# Altium footprint library Alt_git.PcbLib: 89 footprints (part 1 of 6)
Each footprint in its own frame and in the unit in brackets; x right, y up, seen from the top. Pads: shape width x height; smd on the part's side, far side on the other; paste and mask are expansions set on the pad; w line width, h text height; cw(c..) or ccw(c..) is an arc to the next point about the centre after c.
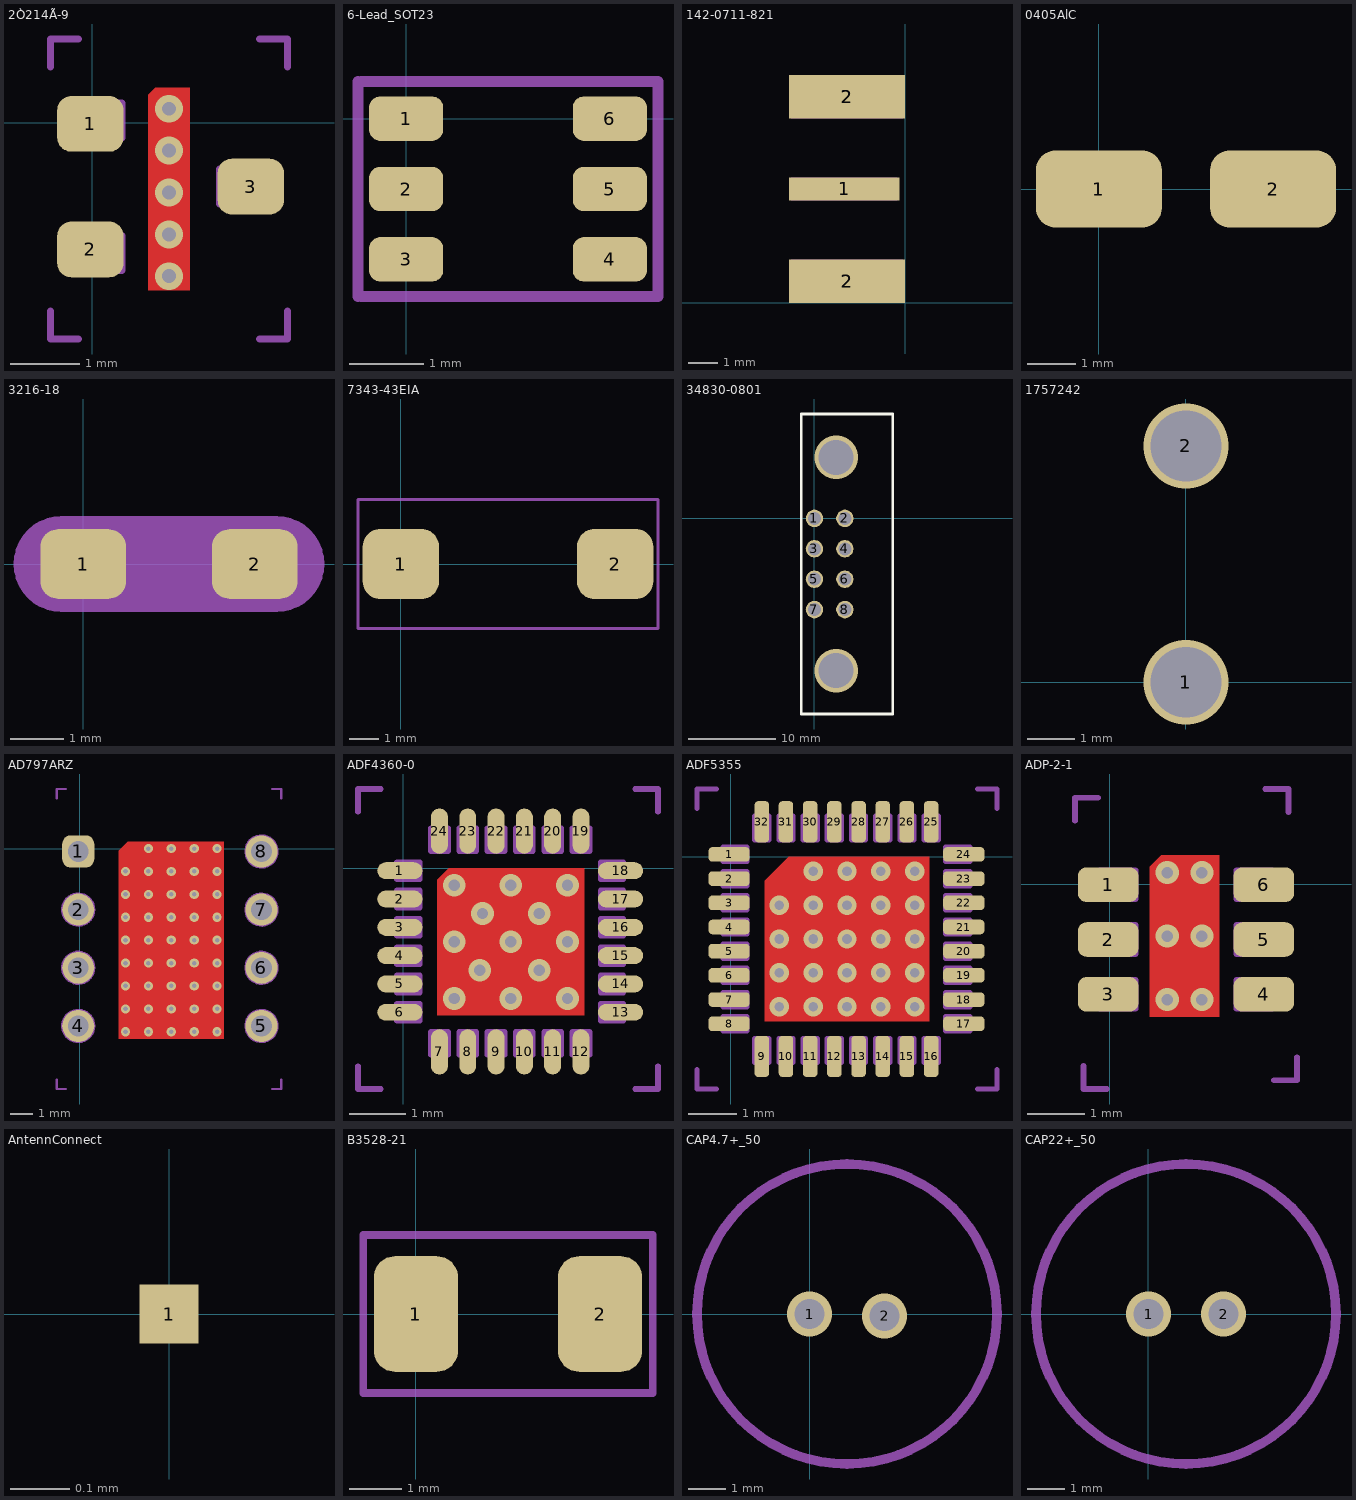
[diagram p0: the footprints below, top view; thin cyan lines are the x and y axes]

## 2Ò214Ã-9 [mm]
pads (3):
  rrect50% 0.95x0.8 smd: 1(-0.027,-0.016) 2(-0.027,-1.816) 3(2.273,-0.916)
via 1.1,0.2 diameter 0.4 hole 0.2
via 1.1,-0.4 diameter 0.4 hole 0.2
via 1.1,-1 diameter 0.4 hole 0.2
via 1.1,-1.6 diameter 0.4 hole 0.2
via 1.1,-2.2 diameter 0.4 hole 0.2
Top Layer:
  region: 1.4,-2.4 1.4,0.5 0.9,0.5 0.8,0.4 0.8,-2.4
Mechanical 4:
  lines w0.1: -0.277,-2.116 0.423,-2.116 0.423,-1.616 -0.277,-1.616 -0.277,-2.116 ; -0.277,-0.216 0.423,-0.216 0.423,0.284 -0.277,0.284 -0.277,-0.216 ; 1.823,-1.166 2.523,-1.166 2.523,-0.666 1.823,-0.666 1.823,-1.166
Mechanical 15:
  lines w0.1: -0.6,-2.7 -0.6,-3.1 -0.2,-3.1 ; -0.6,0.8 -0.6,1.2 -0.2,1.2 ; 2.4,-3.1 2.8,-3.1 2.8,-2.7 ; 2.4,1.2 2.8,1.2 2.8,0.8
3D body: height 1, standoff 0, extent 0.375,-2.425 1.875,0.575

## 6-Lead_SOT23 [mm]
pads (6):
  rrect50% 1x0.6 smd mask+0: 1(0,0) 2(0,-0.95) 3(0,-1.9) 4(2.75,-1.9) 5(2.75,-0.95) 6(2.75,0)
Mechanical 15:
  lines w0.15: -0.65,-2.4 -0.65,0.5 ; -0.6,-2.4 3.4,-2.4 3.4,0.5 -0.6,0.5

## 142-0711-821 [mm]
pads (5):
  rect 3.81x0.8 smd: 1(-2.1,3.925)
  rect 4x1.5 smd mask+0.1: 2(-2,0.75) 2(-2,7.1)
  rect 4x1.5 smd: 2(-2,0.75) 2(-2,7.1)
Bottom Paste:
  region: 0,1.5 0,0 -4,0 -4,1.5
  region: 0,7.85 0,6.35 -4,6.35 -4,7.85
Connect:
  lines w0.2: -3.9,0.1 -0.1,0.1 -0.1,1.4 -3.9,1.4 -3.9,0.1 ; -3.9,3.62 -3.9,4.22 -0.3,4.22 -0.3,3.62 -3.9,3.62 ; -3.9,6.45 -3.9,7.75 -0.15,7.75 -0.1,7.75 -0.1,6.45 -3.9,6.45
3D body: height 3.6, standoff -2.75, extent -13.31,0.75 0.1,7.1

## 0405AlC [mm]
pads (2):
  rrect50% 2.6x1.6 smd: 1(0,0) 2(3.6,0)
3D body: height 5.6, standoff 0, extent -0.1,-2 3.9,2

## 3216-18 [mm]
pads (2):
  rrect50% 1.6x1.3 smd mask+0: 1(0,0) 2(3.2,0)
Mechanical 15:
  region: -1.2,0 -1.2,0.052 -1.179,0.209 -1.099,0.403 -0.971,0.571 -0.803,0.699 -0.609,0.779 -0.452,0.8 -0.4,0.8 3.6,0.8 3.652,0.8 3.809,0.779 4.003,0.699 4.171,0.571 4.299,0.403 4.379,0.209 4.4,0.052 4.4,0 4.4,-0.052 4.379,-0.209 4.299,-0.403 4.171,-0.571 4.003,-0.699 3.809,-0.779 3.652,-0.8 3.6,-0.8 -0.4,-0.8 -0.452,-0.8 -0.609,-0.779 -0.803,-0.699 -0.971,-0.571 -1.099,-0.403 -1.179,-0.209 -1.2,-0.052
BrdComp:
  lines w0.2: -1.2,0 cw(c-0.4,0) -0.4,0.8 3.6,0.8 cw(c3.6,0) 4.4,0 cw(c3.6,0) 3.6,-0.8 -0.4,-0.8 cw(c-0.4,0) -1.2,0

## 7343-43EIA [mm]
pads (2):
  rrect50% 2.6x2.4 smd: 1(0,0) 2(7.3,0)
Mechanical 15:
  lines w0.1: -1.46,-2.19 -1.46,2.19 8.76,2.19 8.76,-2.19 -1.46,-2.19

## 34830-0801 [mm] "Molex MX150 PCB connector"
height 20
pads (8):
  round 2 hole 1.5: 1(0,0) 2(3.5,0) 3(0,-3.5) 4(3.5,-3.5) 5(0,-7) 6(3.5,-7) 7(0,-10.5) 8(3.5,-10.5)
via 2.5,-17.5 diameter 5 hole 4
via 2.5,7 diameter 5 hole 4
Top Overlay:
  lines w0.3: -1.5,-22.5 -1.5,12 9,12 9,-22.5 -1.5,-22.5
3D body: height 20.64, standoff -5.85, extent -0.6,-26.645 41.96,16.045

## 1757242 [mm]
pads (2):
  round 1 hole 0.6: 1(0,0) 2(0,5.02)
via 0,0 diameter 1.8 hole 1.5
via 0,5.02 diameter 1.8 hole 1.5
Top Paste:
  circle w0.15: c0.005,-0.001 r0.675
  circle w0.15: c-0.003,5.025 r0.675
Top Solder:
  circle w0.15: c0.001,-0.001 r0.675
  circle w0.15: c0,5.02 r0.675
3D body: height 13.64, standoff -3, extent -2,-3.66 28,8.5

## AD797ARZ [mm]
pads (8):
  rrect50% 1.4x1.4 hole 0.9: 1(-0.063,-0.127)
  round 1.4 hole 0.9: 2(-0.063,-2.667) 3(-0.063,-5.207) 4(-0.063,-7.747) 5(7.937,-7.747) 6(7.937,-5.207) 7(7.937,-2.667) 8(7.937,-0.127)
via 2,-2 diameter 0.4 hole 0.2
via 2,-1 diameter 0.4 hole 0.2
via 2,-3 diameter 0.4 hole 0.2
via 2,-5 diameter 0.4 hole 0.2
via 2,-4 diameter 0.4 hole 0.2
via 2,-6 diameter 0.4 hole 0.2
via 2,-8 diameter 0.4 hole 0.2
via 2,-7 diameter 0.4 hole 0.2
via 3,0 diameter 0.4 hole 0.2
via 3,-2 diameter 0.4 hole 0.2
via 3,-1 diameter 0.4 hole 0.2
via 3,-3 diameter 0.4 hole 0.2
via 3,-5 diameter 0.4 hole 0.2
via 3,-4 diameter 0.4 hole 0.2
via 3,-6 diameter 0.4 hole 0.2
via 3,-8 diameter 0.4 hole 0.2
via 3,-7 diameter 0.4 hole 0.2
via 4,0 diameter 0.4 hole 0.2
via 4,-2 diameter 0.4 hole 0.2
via 4,-1 diameter 0.4 hole 0.2
via 4,-3 diameter 0.4 hole 0.2
via 4,-5 diameter 0.4 hole 0.2
via 4,-4 diameter 0.4 hole 0.2
via 4,-6 diameter 0.4 hole 0.2
via 4,-8 diameter 0.4 hole 0.2
via 4,-7 diameter 0.4 hole 0.2
via 5,0 diameter 0.4 hole 0.2
via 5,-2 diameter 0.4 hole 0.2
via 5,-1 diameter 0.4 hole 0.2
via 5,-3 diameter 0.4 hole 0.2
via 5,-5 diameter 0.4 hole 0.2
via 5,-4 diameter 0.4 hole 0.2
via 5,-6 diameter 0.4 hole 0.2
via 5,-8 diameter 0.4 hole 0.2
via 5,-7 diameter 0.4 hole 0.2
via 6,-7 diameter 0.4 hole 0.2
via 6,-8 diameter 0.4 hole 0.2
via 6,-6 diameter 0.4 hole 0.2
via 6,-4 diameter 0.4 hole 0.2
via 6,-5 diameter 0.4 hole 0.2
via 6,-3 diameter 0.4 hole 0.2
via 6,-1 diameter 0.4 hole 0.2
via 6,-2 diameter 0.4 hole 0.2
via 6,0 diameter 0.4 hole 0.2
Top Layer:
  region: 6.3,-8.3 6.3,0.3 2.1,0.3 1.7,-0.1 1.7,-8.3
Mechanical 4:
  circle w0.1: c-0.063,-5.207 r0.7
  circle w0.1: c-0.063,-7.747 r0.7
  circle w0.1: c-0.063,-2.667 r0.7
  circle w0.1: c7.937,-7.747 r0.7
  circle w0.1: c7.937,-5.207 r0.7
  circle w0.1: c7.937,-0.127 r0.7
  circle w0.1: c7.937,-2.667 r0.7
Mechanical 15:
  lines w0.1: -1,-10.1 -1,-10.5 -0.6,-10.5 ; -1,2.2 -1,2.6 -0.6,2.6 ; 8.4,-10.5 8.8,-10.5 8.8,-10.1 ; 8.4,2.6 8.8,2.6 8.8,2.2
BrdComp:
  lines w0.05: 3.437,-3.937 4.437,-3.937 ; 3.937,-4.437 3.937,-3.437
3D body: height 6, standoff -0.65, extent -0.05,-9.08 7.95,1.08

## ADF4360-0 [mm]
pads (25):
  oval 0.8x0.3 smd: 1(-0.061,-0.044) 2(-0.061,-0.544) 3(-0.061,-1.044) 4(-0.061,-1.544) 5(-0.061,-2.044) 6(-0.061,-2.544) 13(3.839,-2.544) 14(3.839,-2.044) 15(3.839,-1.544) 16(3.839,-1.044) 17(3.839,-0.544) 18(3.839,-0.044)
  oval 0.3x0.8 smd: 7(0.639,-3.244) 8(1.139,-3.244) 9(1.639,-3.244) 10(2.139,-3.244) 11(2.639,-3.244) 12(3.139,-3.244) 19(3.139,0.656) 20(2.639,0.656) 21(2.139,0.656) 22(1.639,0.656) 23(1.139,0.656) 24(0.639,0.656)
  round 0 smd paste-25.4 mask-25.4: 25(1.889,-1.294)
via 2.4,-1.8 diameter 0.4 hole 0.2
via 1.35,-1.8 diameter 0.4 hole 0.2
via 1.4,-0.8 diameter 0.4 hole 0.2
via 2.4,-0.8 diameter 0.4 hole 0.2
via 2.9,-0.3 diameter 0.4 hole 0.2
via 2.9,-2.3 diameter 0.4 hole 0.2
via 2.9,-1.3 diameter 0.4 hole 0.2
via 1.9,-0.3 diameter 0.4 hole 0.2
via 1.9,-1.3 diameter 0.4 hole 0.2
via 1.9,-2.3 diameter 0.4 hole 0.2
via 0.9,-2.3 diameter 0.4 hole 0.2
via 0.9,-1.3 diameter 0.4 hole 0.2
via 0.9,-0.3 diameter 0.4 hole 0.2
Top Layer:
  region: 3.2,-2.6 3.2,0 0.8,0 0.6,-0.2 0.6,-2.6
Mechanical 4:
  lines w0.1: -0.111,-2.694 0.289,-2.694 0.289,-2.394 -0.111,-2.394 -0.111,-2.694 ; -0.111,-2.194 0.289,-2.194 0.289,-1.894 -0.111,-1.894 -0.111,-2.194 ; -0.111,-1.694 0.289,-1.694 0.289,-1.394 -0.111,-1.394 -0.111,-1.694 ; -0.111,-1.194 -0.111,-0.894 0.289,-0.894 0.289,-1.194 -0.111,-1.194 ; -0.111,-0.694 0.289,-0.694 0.289,-0.394 -0.111,-0.394 -0.111,-0.694 ; -0.111,-0.194 0.289,-0.194 0.289,0.106 -0.111,0.106 -0.111,-0.194 ; 0.489,-3.294 0.489,-2.894 0.789,-2.894 0.789,-3.294 0.489,-3.294 ; 0.489,0.306 0.489,0.706 0.789,0.706 0.789,0.306 0.489,0.306 ; 0.989,-3.294 0.989,-2.894 1.289,-2.894 1.289,-3.294 0.989,-3.294 ; 0.989,0.306 0.989,0.706 1.289,0.706 1.289,0.306 0.989,0.306 ; 1.489,-3.294 1.789,-3.294 1.789,-2.894 1.489,-2.894 1.489,-3.294 ; 1.489,0.306 1.789,0.306 1.789,0.706 1.489,0.706 1.489,0.306 ; 1.989,-3.294 1.989,-2.894 2.289,-2.894 2.289,-3.294 1.989,-3.294 ; 1.989,0.306 2.289,0.306 2.289,0.706 1.989,0.706 1.989,0.306 ; 2.489,-3.294 2.489,-2.894 2.789,-2.894 2.789,-3.294 2.489,-3.294 ; 2.489,0.306 2.489,0.706 2.789,0.706 2.789,0.306 2.489,0.306 ; 2.989,-3.294 2.989,-2.894 3.289,-2.894 3.289,-3.294 2.989,-3.294 ; 2.989,0.306 3.289,0.306 3.289,0.706 2.989,0.706 2.989,0.306 ; 3.489,-2.694 3.489,-2.394 3.889,-2.394 3.889,-2.694 3.489,-2.694 ; 3.489,-2.194 3.889,-2.194 3.889,-1.894 3.489,-1.894 3.489,-2.194 ; 3.489,-1.694 3.889,-1.694 3.889,-1.394 3.489,-1.394 3.489,-1.694 ; 3.489,-1.194 3.489,-0.894 3.889,-0.894 3.889,-1.194 3.489,-1.194 ; 3.489,-0.694 3.889,-0.694 3.889,-0.394 3.489,-0.394 3.489,-0.694 ; 3.489,-0.194 3.889,-0.194 3.889,0.106 3.489,0.106 3.489,-0.194
Mechanical 15:
  lines w0.1: -0.8,-3.5 -0.8,-3.9 -0.4,-3.9 ; -0.8,1 -0.8,1.4 -0.4,1.4 ; 4.1,-3.9 4.5,-3.9 4.5,-3.5 ; 4.1,1.4 4.5,1.4 4.5,1
3D body: height 1, standoff 0, extent -0.1,-3.3 3.9,0.7

## ADF5355 [mm]
pads (32):
  rrect50% 0.85x0.3 smd: 1(-0.036,0.048) 2(-0.036,-0.452) 3(-0.036,-0.952) 4(-0.036,-1.452) 5(-0.036,-1.952) 6(-0.036,-2.452) 7(-0.036,-2.952) 8(-0.036,-3.452) 17(4.814,-3.452) 18(4.814,-2.952) 19(4.814,-2.452) 20(4.814,-1.952) 21(4.814,-1.452) 22(4.814,-0.952) 23(4.814,-0.452) 24(4.814,0.048)
  rrect50% 0.3x0.85 smd: 9(0.639,-4.127) 10(1.139,-4.127) 11(1.639,-4.127) 12(2.139,-4.127) 13(2.639,-4.127) 14(3.139,-4.127) 15(3.639,-4.127) 16(4.139,-4.127) 25(4.139,0.723) 26(3.639,0.723) 27(3.139,0.723) 28(2.639,0.723) 29(2.139,0.723) 30(1.639,0.723) 31(1.139,0.723) 32(0.639,0.723)
via 1,-3.1 diameter 0.4 hole 0.2
via 1,-2.4 diameter 0.4 hole 0.2
via 1,-1.7 diameter 0.4 hole 0.2
via 1.7,-3.1 diameter 0.4 hole 0.2
via 1.7,-2.4 diameter 0.4 hole 0.2
via 1.7,-1.7 diameter 0.4 hole 0.2
via 2.4,-3.1 diameter 0.4 hole 0.2
via 2.4,-2.4 diameter 0.4 hole 0.2
via 2.4,-1.7 diameter 0.4 hole 0.2
via 3.1,-3.1 diameter 0.4 hole 0.2
via 3.1,-2.4 diameter 0.4 hole 0.2
via 3.1,-1.7 diameter 0.4 hole 0.2
via 3.8,-3.1 diameter 0.4 hole 0.2
via 3.8,-2.4 diameter 0.4 hole 0.2
via 3.8,-1.7 diameter 0.4 hole 0.2
via 1,-1 diameter 0.4 hole 0.2
via 1.7,-1 diameter 0.4 hole 0.2
via 2.4,-1 diameter 0.4 hole 0.2
via 3.1,-1 diameter 0.4 hole 0.2
via 3.8,-1 diameter 0.4 hole 0.2
via 1.7,-0.3 diameter 0.4 hole 0.2
via 2.4,-0.3 diameter 0.4 hole 0.2
via 3.1,-0.3 diameter 0.4 hole 0.2
via 3.8,-0.3 diameter 0.4 hole 0.2
Top Layer:
  region: 4.1,-3.4 4.1,0 1.2,0 0.7,-0.5 0.7,-3.4
Mechanical 4:
  lines w0.1: -0.161,-3.602 0.339,-3.602 0.339,-3.302 -0.161,-3.302 -0.161,-3.602 ; -0.161,-3.102 0.339,-3.102 0.339,-2.802 -0.161,-2.802 -0.161,-3.102 ; -0.161,-2.602 0.339,-2.602 0.339,-2.302 -0.161,-2.302 -0.161,-2.602 ; -0.161,-2.102 0.339,-2.102 0.339,-1.802 -0.161,-1.802 -0.161,-2.102 ; -0.161,-1.602 0.339,-1.602 0.339,-1.302 -0.161,-1.302 -0.161,-1.602 ; -0.161,-1.102 -0.161,-0.802 0.339,-0.802 0.339,-1.102 -0.161,-1.102 ; -0.161,-0.602 0.339,-0.602 0.339,-0.302 -0.161,-0.302 -0.161,-0.602 ; -0.161,-0.102 0.339,-0.102 0.339,0.198 -0.161,0.198 -0.161,-0.102 ; 0.489,-4.252 0.489,-3.752 0.789,-3.752 0.789,-4.252 0.489,-4.252 ; 0.489,0.348 0.489,0.848 0.789,0.848 0.789,0.348 0.489,0.348 ; 0.989,-4.252 0.989,-3.752 1.289,-3.752 1.289,-4.252 0.989,-4.252 ; 0.989,0.348 0.989,0.848 1.289,0.848 1.289,0.348 0.989,0.348 ; 1.489,-4.252 1.489,-3.752 1.789,-3.752 1.789,-4.252 1.489,-4.252 ; 1.489,0.348 1.489,0.848 1.789,0.848 1.789,0.348 1.489,0.348 ; 1.989,-4.252 2.289,-4.252 2.289,-3.752 1.989,-3.752 1.989,-4.252 ; 1.989,0.348 2.289,0.348 2.289,0.848 1.989,0.848 1.989,0.348 ; 2.489,-4.252 2.489,-3.752 2.789,-3.752 2.789,-4.252 2.489,-4.252 ; 2.489,0.348 2.489,0.848 2.789,0.848 2.789,0.348 2.489,0.348 ; 2.989,-4.252 2.989,-3.752 3.289,-3.752 3.289,-4.252 2.989,-4.252 ; 2.989,0.348 2.989,0.848 3.289,0.848 3.289,0.348 2.989,0.348 ; 3.489,-4.252 3.489,-3.752 3.789,-3.752 3.789,-4.252 3.489,-4.252 ; 3.489,0.348 3.489,0.848 3.789,0.848 3.789,0.348 3.489,0.348 ; 3.989,-4.252 3.989,-3.752 4.289,-3.752 4.289,-4.252 3.989,-4.252 ; 3.989,0.348 3.989,0.848 4.289,0.848 4.289,0.348 3.989,0.348 ; 4.439,-3.602 4.439,-3.302 4.939,-3.302 4.939,-3.602 4.439,-3.602 ; 4.439,-3.102 4.439,-2.802 4.939,-2.802 4.939,-3.102 4.439,-3.102 ; 4.439,-2.602 4.439,-2.302 4.939,-2.302 4.939,-2.602 4.439,-2.602 ; 4.439,-2.102 4.439,-1.802 4.939,-1.802 4.939,-2.102 4.439,-2.102 ; 4.439,-1.602 4.439,-1.302 4.939,-1.302 4.939,-1.602 4.439,-1.602 ; 4.439,-1.102 4.439,-0.802 4.939,-0.802 4.939,-1.102 4.439,-1.102 ; 4.439,-0.602 4.439,-0.302 4.939,-0.302 4.939,-0.602 4.439,-0.602 ; 4.439,-0.102 4.439,0.198 4.939,0.198 4.939,-0.102 4.439,-0.102
Mechanical 15:
  lines w0.1: -0.7,-4.4 -0.7,-4.8 -0.3,-4.8 ; -0.7,1 -0.7,1.4 -0.3,1.4 ; 5.1,-4.8 5.5,-4.8 5.5,-4.4 ; 5.1,1.4 5.5,1.4 5.5,1
3D body: height 1, standoff 0, extent -0.1,-4.2 4.9,0.8

## ADP-2-1 [mm]
pads (6):
  rrect50% 1.05x0.6 smd: 1(-0.025,-0.009) 2(-0.025,-0.959) 3(-0.025,-1.909) 4(2.675,-1.909) 5(2.675,-0.959) 6(2.675,-0.009)
via 1.6,-0.9 diameter 0.4 hole 0.2
via 1,-0.9 diameter 0.4 hole 0.2
via 1.6,-2 diameter 0.4 hole 0.2
via 1,-2 diameter 0.4 hole 0.2
via 1,0.2 diameter 0.4 hole 0.2
via 1.6,0.2 diameter 0.4 hole 0.2
Top Layer:
  region: 1.9,-2.3 1.9,0.5 0.9,0.5 0.7,0.3 0.7,-2.3
Mechanical 4:
  lines w0.1: -0.175,-2.159 0.45,-2.159 0.45,-1.659 -0.175,-1.659 -0.175,-2.159 ; -0.175,-1.209 0.45,-1.209 0.45,-0.709 -0.175,-0.709 -0.175,-1.209 ; -0.175,-0.259 0.45,-0.259 0.45,0.241 -0.175,0.241 -0.175,-0.259 ; 2.2,-2.159 2.825,-2.159 2.825,-1.659 2.2,-1.659 2.2,-2.159 ; 2.2,-1.209 2.825,-1.209 2.825,-0.709 2.2,-0.709 2.2,-1.209 ; 2.2,-0.259 2.825,-0.259 2.825,0.241 2.2,0.241 2.2,-0.259
Mechanical 15:
  lines w0.1: -0.6,1.1 -0.6,1.5 -0.2,1.5 ; -0.45,-3.15 -0.45,-3.55 -0.05,-3.55 ; 2.7,1.65 3.1,1.65 3.1,1.25 ; 2.85,-3.4 3.25,-3.4 3.25,-3
3D body: height 1, standoff 0, extent 0.45,-2.5 2.2,0.6

## AntennConnect [mm]
pads (1):
  rect 0.1x0.1 smd paste+0 mask+0: 1(0,0)

## B3528-21 [mm] "B3528-21"
pads (2):
  rrect50% 1.6x2.2 smd: 1(0,0) 2(3.5,0)
Mechanical 15:
  lines w0.15: -1,-1.5 4.5,-1.5 4.5,1.5 -1,1.5 -1,-1.5

## CAP4.7+_50 [mm]
pads (2):
  rect 0.5x0.5 smd paste+0: 1(0,0) 2(2,-0.05)
via 2,-0.05 diameter 1.2 hole 0.8
via 0,0 diameter 1.2 hole 0.8
Mechanical 15:
  circle w0.254: c1,0 r4
3D body: height 13.95, standoff -11.69, extent -1.495,-2.48 3.495,2.5

## CAP22+_50 [mm]
pads (2):
  rect 0.5x0.5 smd paste+0: 1(0,0) 2(2,0)
via 2,0 diameter 1.2 hole 0.8
via 0,0 diameter 1.2 hole 0.8
Mechanical 15:
  circle w0.254: c1,0 r4
3D body: height 13.94, standoff -11.7, extent -1.994,-2.977 3.994,3